# Altium schematic symbol library interfaces_ethernet.SchLib: 1 symbol
Pins are listed as number, name and electrical type; pins without a type are passive.

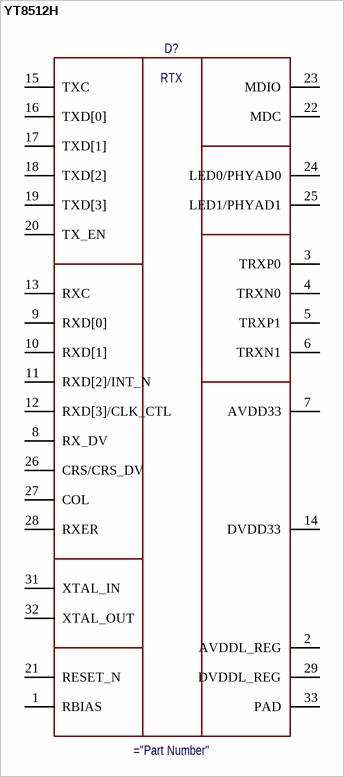
[diagram p0: symbol YT8512H]

## YT8512H
designator D?
Ethernet PHY
pins: 1 RBIAS, 2 AVDDL_REG, 3 TRXP0, 4 TRXN0, 5 TRXP1, 6 TRXN1, 7 AVDD33, 8 RX_DV, 9 RXD[0], 10 RXD[1], 11 RXD[2]/INT_N, 12 RXD[3]/CLK_CTL, 13 RXC, 14 DVDD33, 15 TXC, 16 TXD[0], 17 TXD[1], 18 TXD[2], 19 TXD[3], 20 TX_EN, 21 RESET_N, 22 MDC, 23 MDIO, 24 LED0/PHYAD0, 25 LED1/PHYAD1, 26 CRS/CRS_DV, 27 COL, 28 RXER, 29 DVDDL_REG, 30 NC hidden, 31 XTAL_IN, 32 XTAL_OUT, 33 PAD
text: RTX